# Altium footprint library Footprints V4.2.1.PcbLib: 42 footprints (part 2 of 3)
Each footprint in its own frame and in the unit in brackets; x right, y up, seen from the top. Pads: shape width x height; smd on the part's side, far side on the other; paste and mask are expansions set on the pad; w line width, h text height; cw(c..) or ccw(c..) is an arc to the next point about the centre after c.
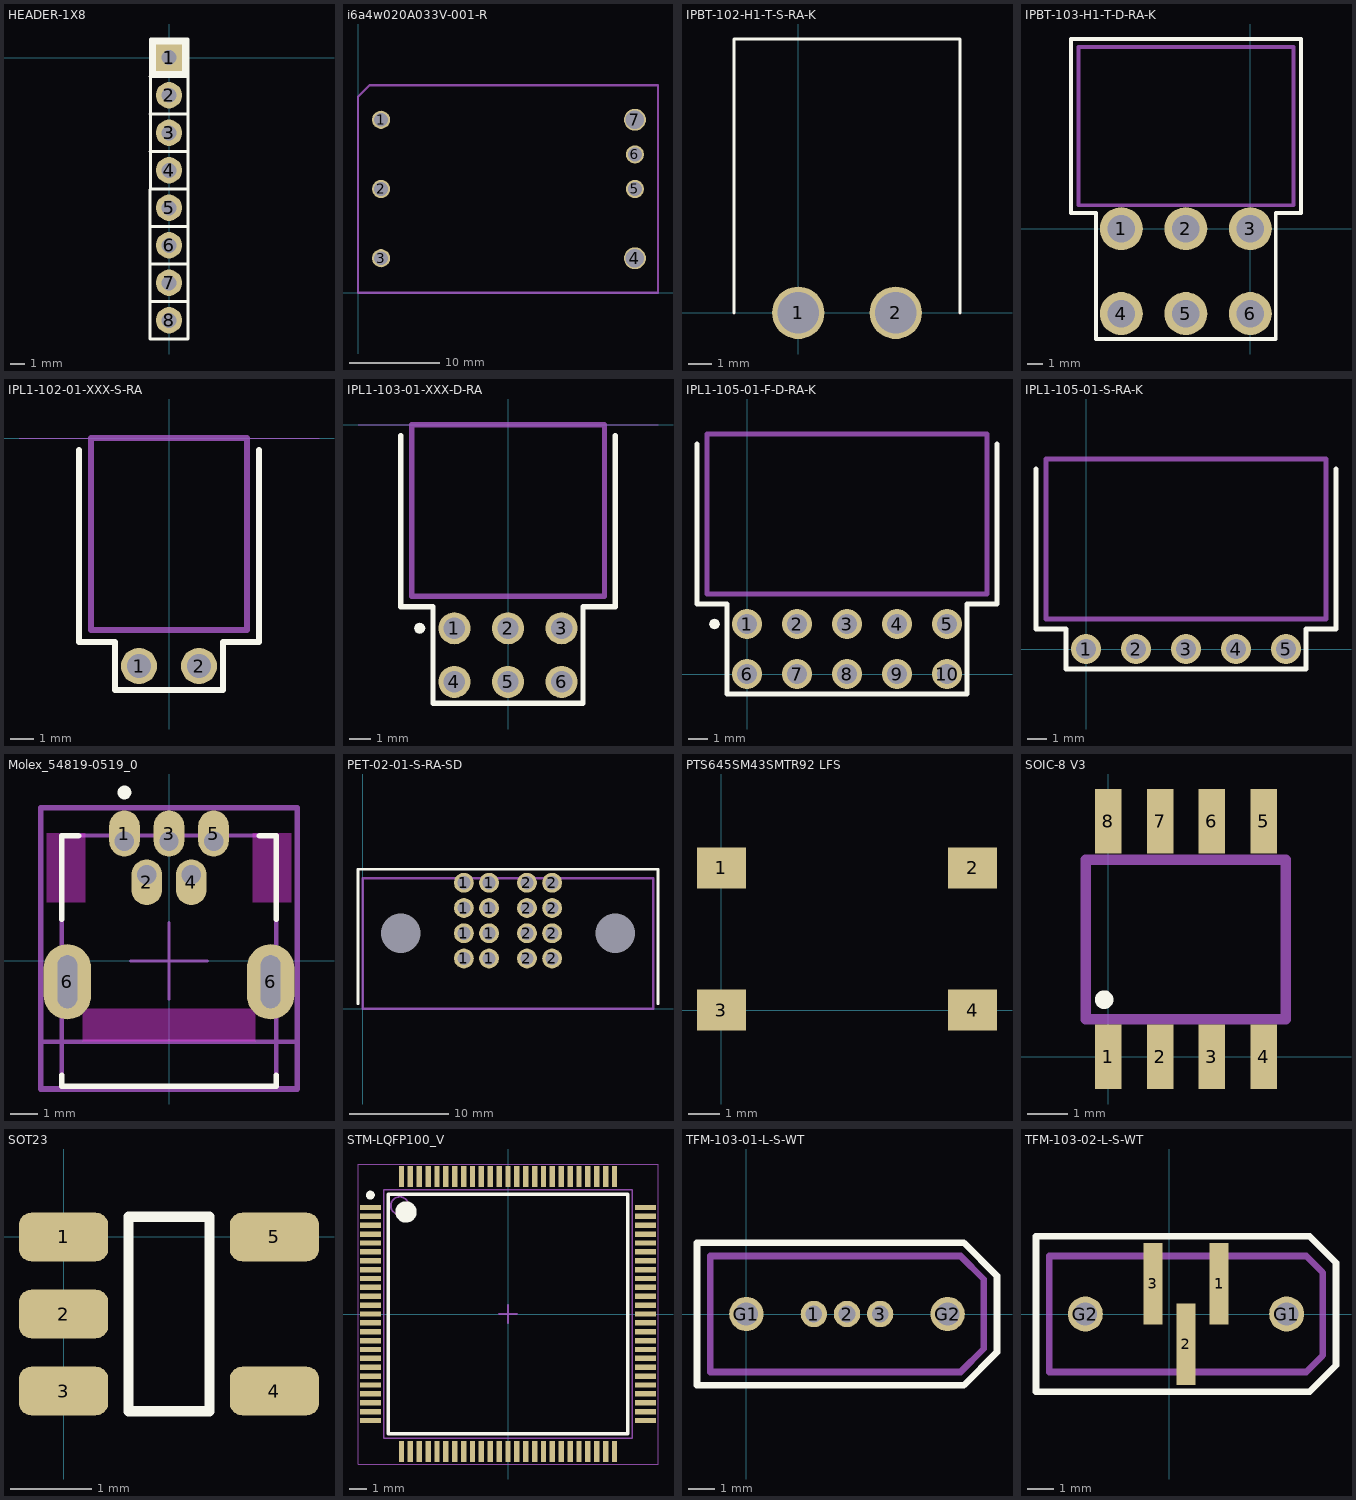
[diagram p1: the footprints below, top view; thin cyan lines are the x and y axes]

## HEADER-1X8 [mil]
pads (8):
  rect 70x70 hole 40: 1(0,0)
  round 70 hole 40: 2(0,-100) 3(0,-200) 4(0,-300) 5(0,-400) 6(0,-500) 7(0,-600) 8(0,-700)
Top Overlay:
  rectangle: -50,-49.62 50,50
  lines w8: -50,-250 50,-250 ; -50,-150 50,-150 ; -50,-50 50,-50 ; -50,-750 50,-750 ; -50,-750 -50,50 50,50 50,-750 ; -50,-750 50,-750 ; -50,-750 50,-750 ; -50,-650 50,-650 -50,-650 ; -50,-550 50,-550 -50,-550 ; -50,-450 50,-450 -50,-450 ; -50,-350 50,-350 -50,-350
3D body: height 470, standoff -120, extent -15,-215 15,-185
3D body: height 100, standoff 0, extent -50,-750 50,50
3D body: height 470, standoff -120, extent -15,-115 15,-85
3D body: height 470, standoff -120, extent -15,-15 15,15
3D body: height 470, standoff -120, extent -15,-315 15,-285
3D body: height 470, standoff -120, extent -15,-415 15,-385
3D body: height 470, standoff -120, extent -15,-515 15,-485
3D body: height 470, standoff -120, extent -15,-615 15,-585
3D body: height 470, standoff -120, extent -15,-715 15,-685
3D body: height 101, standoff 100, extent -35,-35 35.5,35

## i6a4w020A033V-001-R [mil] "TDK Lambda DC/DC Converter"
pads (7):
  round 78.75 hole 60: 1(100,750) 2(100,450) 3(100,150) 5(1200,450) 6(1200,600)
  round 95 hole 80: 4(1200,150) 7(1200,750)
Mechanical 1:
  lines w10: 0,0 0,850 50,900 1300,900 1300,0 0,0
3D body "i6a4W DC-DC Converter Model.SLDPRT": height 474, standoff -140, extent 0,0 1300,900

## IPBT-102-H1-T-S-RA-K [mm]
pads (2):
  round 2.25 hole 1.78 unplated: 1(0,0) 2(4.19,0)
Top Overlay:
  lines w0.127: -2.76,0 -2.76,11.77 6.95,11.77 6.95,0 ; 4.19,0 4.19,0.81
3D body "IPBT-102-H1-T-S-RA-K.stp": height 7.71, standoff -3.29, extent -2.766,-0.607 6.95,11.775

## IPBT-103-H1-T-D-RA-K [mil]
pads (6):
  round 110 hole 70 mask+3: 1(-330,0) 2(-165,0) 3(0,0) 4(-330,-217) 5(-165,-217) 6(0,-217)
Top Overlay:
  lines w10: -459,40 -459,485 130,485 130,40 65,40 65,-282 -395,-282 -395,40 -459,40
Mechanical 1:
  lines w10: -439,60 -439,465 110,465 110,60 -439,60
  text "J1" at -17.57,247.5 h30

## IPL1-102-01-XXX-S-RA [mil]
pads (2):
  round 60 hole 40 mask+3: 1(-50,-380) 2(50,-380)
Top Overlay:
  lines w10: -150,-20 -150,-340 -90,-340 -90,-420 90,-420 90,-340 150,-340 150,-20
Mechanical 1:
  lines w10: -130,-320 130,-320 130,0 -130,0 -130,-320
  text "J1" at -19.57,-176 h30
Mechanical 16:
  lines w0.01: -250,0 250,0

## IPL1-103-01-XXX-D-RA [mil]
pads (6):
  round 60 hole 40 mask+3: 1(-100,-380) 2(0,-380) 3(100,-380) 4(-100,-480) 5(0,-480) 6(100,-480)
Top Overlay:
  region: -154.8,-380 -155.58,-376.1 -157.79,-372.79 -161.1,-370.58 -165,-369.8 -168.9,-370.58 -172.21,-372.79 -174.42,-376.1 -175.2,-380 -174.42,-383.9 -172.21,-387.21 -168.9,-389.42 -165,-390.2 -161.1,-389.42 -157.79,-387.21 -155.58,-383.9
  lines w10: -200,-20 -200,-340 -140,-340 -140,-520 140,-520 140,-340 200,-340 200,-20
Mechanical 1:
  lines w10: -180,-320 180,-320 180,0 -180,0 -180,-320
  text "J1" at -17.57,-168 h30
Mechanical 16:
  lines w0.1: -280,0 280,0

## IPL1-105-01-F-D-RA-K [mil]
pads (10):
  round 60 hole 40 mask+3: 1(0,100) 2(100,100) 3(200,100) 4(300,100) 5(400,100) 6(0,0) 7(100,0) 8(200,0) 9(300,0) 10(400,0)
Top Overlay:
  region: -54.8,100 -55.58,103.9 -57.79,107.21 -61.1,109.42 -65,110.2 -68.9,109.42 -72.21,107.21 -74.42,103.9 -75.2,100 -74.42,96.1 -72.21,92.79 -68.9,90.58 -65,89.8 -61.1,90.58 -57.79,92.79 -55.58,96.1
  lines w10: -100,460 -100,140 -40,140 -40,-40 440,-40 440,140 500,140 500,460
Mechanical 1:
  lines w10: -80,160 480,160 480,480 -80,480 -80,160
  text "J1" at -80,500 h30

## IPL1-105-01-S-RA-K [mil]
pads (5):
  round 60 hole 40 mask+3: 1(0,0) 2(100,0) 3(200,0) 4(300,0) 5(400,0)
Top Overlay:
  lines w10: -100,360 -100,40 -40,40 -40,-40 440,-40 440,40 500,40 500,360
Mechanical 1:
  lines w10: 479,380 -80,380 -80,60 480,60 480,380
3D body "IPL1-105-01-F-S-RA-K.stp": height 277.8, standoff -67.2, extent -79.21,-11.47 480.79,381.03

## Molex_54819-0519_0 [mm]
pads (7):
  oval 1.1x1.65 smd paste+0 mask+0: 1(-1.6,4.575) 2(-0.8,2.825) 3(0,4.575) 4(0.8,2.825) 5(1.6,4.575)
  oval 1.7x2.7 hole 1.9 slot 0.7 at 0 deg paste-1000 mask+0: 6(-3.65,-0.75) 6(3.65,-0.75)
via 1.6,4.3 diameter 0.7 hole 0.7
via 0.8,3.1 diameter 0.7 hole 0.7
via 0,4.3 diameter 0.7 hole 0.7
via -0.8,3.1 diameter 0.7 hole 0.7
via -1.6,4.3 diameter 0.7 hole 0.7
Top Overlay:
  circle w0.25: c-1.6,6.05 r0.125
  lines w0.2: -3.85,-4.1 -3.85,-4.5 3.85,-4.5 3.85,-4.1 ; -3.85,1.5 -3.85,4.5 -3.25,4.5 ; 3.25,4.5 3.85,4.5 3.85,1.5
Keep-Out Layer:
  rectangle: -3.1,-2.9 3.1,-1.7
  rectangle: -4.4,2.1 -3,4.6
  rectangle: 3,2.1 4.4,4.6
Mechanical 10:
  lines w0.2: -4.6,-4.6 4.6,-4.6 4.6,5.5 -4.6,5.5 -4.6,-4.6
  text ".Designator" at 0,0.45 h1
Mechanical 12:
  lines w0.15: -4.6,-2.9 4.6,-2.9 ; -3.85,-4.5 3.85,-4.5 3.85,4.5 -3.85,4.5 -3.85,-4.5
Mechanical 15:
  lines w0.1: -1.38,0 1.38,0 ; 0,-1.38 0,1.38
  lines w0.2: -4.6,-4.6 4.6,-4.6 4.6,5.5 -4.6,5.5 -4.6,-4.6
3D body "3dmodel.step": height 0.25, standoff 0, extent -4.6,-4.6 4.6,5.5
3D body "Conn_Molex_54819-0519_eec.STEP": height 3.98, standoff -1.77, extent -3.85,-4.499 3.85,4.501

## PET-02-01-S-RA-SD [mm]
pads (18):
  round 2 hole 1.32 mask+0.075: 1(10.16,5.08) 1(10.16,7.62) 1(10.16,10.16) 1(10.16,12.7) 1(12.7,5.08) 1(12.7,7.62) 1(12.7,10.16) 1(12.7,12.7) 2(16.51,5.08) 2(16.51,7.62) 2(16.51,10.16) 2(16.51,12.7) 2(19.05,5.08) 2(19.05,7.62) 2(19.05,10.16) 2(19.05,12.7)
  round 0 hole 4.01 unplated: G1(3.81,7.62) G2(25.4,7.62)
Top Overlay:
  lines w0.254: -0.5,0.5 -0.5,14.08 29.7,14.08 ; 29.71,0.5 29.71,14.08
Mechanical 1:
  lines w0.254: 0,0 29.21,0 29.21,13.14 0,13.14 0,0

## PTS645SM43SMTR92 LFS [mm] "SMD Button"
pads (4):
  rect 1.55x1.3 smd: 1(0,4.5) 2(7.95,4.5) 3(0,0) 4(7.95,0)

## SOIC-8 V3 [mm]
pads (8):
  rect 0.65x1.575 smd: 1(0,0) 2(1.27,0) 3(2.54,0) 4(3.81,0) 5(3.81,5.775) 6(2.54,5.775) 7(1.27,5.775) 8(0,5.775)
Top Overlay:
  circle w0.254: c-0.1,1.4 r0.1
Mechanical 1:
  lines w0.254: -0.55,0.925 -0.55,4.825 4.35,4.825 4.35,0.925 -0.55,0.925

## SOT23 [mm]
pads (5):
  rrect50% 1.1x0.6 smd: 1(0,0) 2(0,-0.95) 3(0,-1.9) 4(2.6,-1.9) 5(2.6,0)
Top Overlay:
  lines w0.127: 0.8,-2.15 0.8,0.25 1.8,0.25 1.8,-2.15 0.8,-2.15
3D body "DBV0005A.stp": height 1.2, standoff 0, extent -0.1,-2.4 2.7,0.5

## STM-LQFP100_V [mm] "Thin QFP, 100-Leads, Body 14x14mm, Pitch 0.5mm, ST Recommended"
height 1.6
pads (100):
  rect 1.2x0.3 smd: 1(-7.75,6) 2(-7.75,5.5) 3(-7.75,5) 4(-7.75,4.5) 5(-7.75,4) 6(-7.75,3.5) 7(-7.75,3) 8(-7.75,2.5) 9(-7.75,2) 10(-7.75,1.5) 11(-7.75,1) 12(-7.75,0.5) 13(-7.75,0) 14(-7.75,-0.5) 15(-7.75,-1) 16(-7.75,-1.5) 17(-7.75,-2) 18(-7.75,-2.5) 19(-7.75,-3) 20(-7.75,-3.5) 21(-7.75,-4) 22(-7.75,-4.5) 23(-7.75,-5) 24(-7.75,-5.5) 25(-7.75,-6) 51(7.75,-6) 52(7.75,-5.5) 53(7.75,-5) 54(7.75,-4.5) 55(7.75,-4) 56(7.75,-3.5) 57(7.75,-3) 58(7.75,-2.5) 59(7.75,-2) 60(7.75,-1.5) 61(7.75,-1) 62(7.75,-0.5) 63(7.75,0) 64(7.75,0.5) 65(7.75,1) 66(7.75,1.5) 67(7.75,2) 68(7.75,2.5) 69(7.75,3) 70(7.75,3.5) 71(7.75,4) 72(7.75,4.5) 73(7.75,5) 74(7.75,5.5) 75(7.75,6)
  rect 0.3x1.2 smd: 26(-6,-7.75) 27(-5.5,-7.75) 28(-5,-7.75) 29(-4.5,-7.75) 30(-4,-7.75) 31(-3.5,-7.75) 32(-3,-7.75) 33(-2.5,-7.75) 34(-2,-7.75) 35(-1.5,-7.75) 36(-1,-7.75) 37(-0.5,-7.75) 38(0,-7.75) 39(0.5,-7.75) 40(1,-7.75) 41(1.5,-7.75) 42(2,-7.75) 43(2.5,-7.75) 44(3,-7.75) 45(3.5,-7.75) 46(4,-7.75) 47(4.5,-7.75) 48(5,-7.75) 49(5.5,-7.75) 50(6,-7.75) 76(6,7.75) 77(5.5,7.75) 78(5,7.75) 79(4.5,7.75) 80(4,7.75) 81(3.5,7.75) 82(3,7.75) 83(2.5,7.75) 84(2,7.75) 85(1.5,7.75) 86(1,7.75) 87(0.5,7.75) 88(0,7.75) 89(-0.5,7.75) 90(-1,7.75) 91(-1.5,7.75) 92(-2,7.75) 93(-2.5,7.75) 94(-3,7.75) 95(-3.5,7.75) 96(-4,7.75) 97(-4.5,7.75) 98(-5,7.75) 99(-5.5,7.75) 100(-6,7.75)
Top Overlay:
  circle w0.25: c-7.75,6.7 r0.125
  circle w0.6: c-5.75,5.75 r0.3
  lines w0.2: -6.75,-6.75 -6.75,6.75 6.75,6.75 6.75,-6.75 -6.75,-6.75
Mechanical 13:
  circle w0.1: c-6.1,6.1 r0.5
  lines w0.1: -7,-7 -7,7 7,7 7,-7 -7,-7
Mechanical 15:
  lines w0.05: -8.45,-8.45 -8.45,8.45 8.45,8.45 8.45,-8.45 -8.45,-8.45
  lines w0.1: -0.5,0 0.5,0 ; 0,-0.5 0,0.5
3D body: height 1.6, standoff 0.05, extent -7,-7 7,7

## TFM-103-01-L-S-WT [mil]
pads (5):
  round 40 hole 25 mask+3: 1(102,0) 2(152,0) 3(202,0)
  round 52 hole 35 mask+3: G1(0,0) G2(304,0)
Top Overlay:
  lines w10: -74.5,-107.5 328.5,-107.5 378.5,-57.5 378.5,57.5 328.5,107.5 -74.5,107.5 -74.5,-107.5
Mechanical 1:
  lines w10: -54.5,-87.5 323.5,-87.5 358.5,-52.5 358.5,52.5 323.5,87.5 -54.5,87.5 -54.5,-87.5

## TFM-103-02-L-S-WT [mil]
pads (5):
  rect 29x123 smd mask+2: 1(75,46) 2(25,-46) 3(-25,46)
  round 53 hole 35 mask+3: G1(177,0) G2(-127,0)
Top Overlay:
  lines w10: -201.5,-117.5 -201.5,117.5 211.5,117.5 251.5,77.5 251.5,-77.5 211.5,-117.5 -201.5,-117.5
Mechanical 1:
  lines w10: -181.5,-87.5 -181.5,87.5 206.5,87.5 231.5,62.5 231.5,-62.5 206.5,-87.5 -181.5,-87.5
  text "J1" at -203,130 h30